# Altium footprint library con-omron.PCBLIB: 109 footprints (part 8 of 8)
Each footprint in its own frame and in the unit in brackets; x right, y up, seen from the top. Pads: shape width x height; smd on the part's side, far side on the other; paste and mask are expansions set on the pad; w line width, h text height; cw(c..) or ccw(c..) is an arc to the next point about the centre after c.
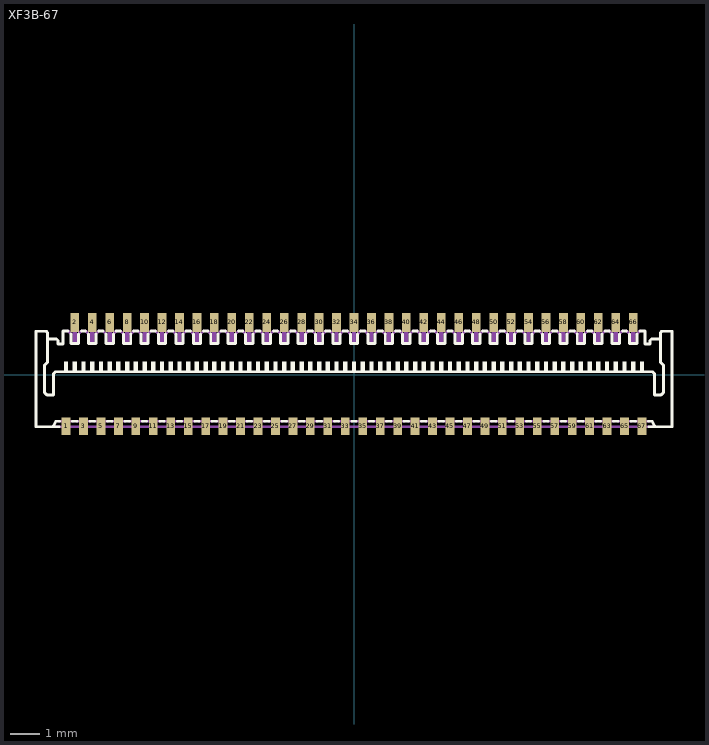
[diagram p7: the footprint, top view; thin cyan lines are the x and y axes]

## XF3B-67 [mm]
pads (67):
  rect 0.3x0.6 smd: 1(-9.9,-1.775) 3(-9.3,-1.775) 5(-8.7,-1.775) 7(-8.1,-1.775) 9(-7.5,-1.775) 11(-6.9,-1.775) 13(-6.3,-1.775) 15(-5.7,-1.775) 17(-5.1,-1.775) 19(-4.5,-1.775) 21(-3.9,-1.775) 23(-3.3,-1.775) 25(-2.7,-1.775) 27(-2.1,-1.775) 29(-1.5,-1.775) 31(-0.9,-1.775) 33(-0.3,-1.775) 35(0.3,-1.775) 37(0.9,-1.775) 39(1.5,-1.775) 41(2.1,-1.775) 43(2.7,-1.775) 45(3.3,-1.775) 47(3.9,-1.775) 49(4.5,-1.775) 51(5.1,-1.775) 53(5.7,-1.775) 55(6.3,-1.775) 57(6.9,-1.775) 59(7.5,-1.775) 61(8.1,-1.775) 63(8.7,-1.775) 65(9.3,-1.775) 67(9.9,-1.775)
  rect 0.3x0.65 smd: 2(-9.6,1.8) 4(-9,1.8) 6(-8.4,1.8) 8(-7.8,1.8) 10(-7.2,1.8) 12(-6.6,1.8) 14(-6,1.8) 16(-5.4,1.8) 18(-4.8,1.8) 20(-4.2,1.8) 22(-3.6,1.8) 24(-3,1.8) 26(-2.4,1.8) 28(-1.8,1.8) 30(-1.2,1.8) 32(-0.6,1.8) 34(0,1.8) 36(0.6,1.8) 38(1.2,1.8) 40(1.8,1.8) 42(2.4,1.8) 44(3,1.8) 46(3.6,1.8) 48(4.2,1.8) 50(4.8,1.8) 52(5.4,1.8) 54(6,1.8) 56(6.6,1.8) 58(7.2,1.8) 60(7.8,1.8) 62(8.4,1.8) 64(9,1.8) 66(9.6,1.8)
Top Overlay:
  drawing of 270 lines, arcs and shapes, not listed
Top Paste:
  rectangle: -9.725,1.5 -9.475,2.1
  rectangle: -10.025,-2.05 -9.775,-1.5
  rectangle: -9.425,-2.05 -9.175,-1.5
  rectangle: -8.825,-2.05 -8.575,-1.5
  rectangle: -8.225,-2.05 -7.975,-1.5
  rectangle: -7.625,-2.05 -7.375,-1.5
  rectangle: -7.025,-2.05 -6.775,-1.5
  rectangle: -6.425,-2.05 -6.175,-1.5
  rectangle: -5.825,-2.05 -5.575,-1.5
  rectangle: -5.225,-2.05 -4.975,-1.5
  rectangle: -4.625,-2.05 -4.375,-1.5
  rectangle: -4.025,-2.05 -3.775,-1.5
  rectangle: -3.425,-2.05 -3.175,-1.5
  rectangle: -2.825,-2.05 -2.575,-1.5
  rectangle: -2.225,-2.05 -1.975,-1.5
  rectangle: -1.625,-2.05 -1.375,-1.5
  rectangle: -1.025,-2.05 -0.775,-1.5
  rectangle: -0.425,-2.05 -0.175,-1.5
  rectangle: 0.175,-2.05 0.425,-1.5
  rectangle: 0.775,-2.05 1.025,-1.5
  rectangle: 1.375,-2.05 1.625,-1.5
  rectangle: 1.975,-2.05 2.225,-1.5
  rectangle: 2.575,-2.05 2.825,-1.5
  rectangle: 3.175,-2.05 3.425,-1.5
  rectangle: 3.775,-2.05 4.025,-1.5
  rectangle: 4.375,-2.05 4.625,-1.5
  rectangle: 4.975,-2.05 5.225,-1.5
  rectangle: 5.575,-2.05 5.825,-1.5
  rectangle: 6.175,-2.05 6.425,-1.5
  rectangle: 6.775,-2.05 7.025,-1.5
  rectangle: 7.375,-2.05 7.625,-1.5
  rectangle: 7.975,-2.05 8.225,-1.5
  rectangle: 8.575,-2.05 8.825,-1.5
  rectangle: 9.175,-2.05 9.425,-1.5
  rectangle: 9.775,-2.05 10.025,-1.5
  rectangle: -9.125,1.5 -8.875,2.1
  rectangle: -8.525,1.5 -8.275,2.1
  rectangle: -7.925,1.5 -7.675,2.1
  rectangle: -7.325,1.5 -7.075,2.1
  rectangle: -6.725,1.5 -6.475,2.1
  rectangle: -6.125,1.5 -5.875,2.1
  rectangle: -5.525,1.5 -5.275,2.1
  rectangle: -4.925,1.5 -4.675,2.1
  rectangle: -4.325,1.5 -4.075,2.1
  rectangle: -3.725,1.5 -3.475,2.1
  rectangle: -3.125,1.5 -2.875,2.1
  rectangle: -2.525,1.5 -2.275,2.1
  rectangle: -1.925,1.5 -1.675,2.1
  rectangle: -1.325,1.5 -1.075,2.1
  rectangle: -0.725,1.5 -0.475,2.1
  rectangle: -0.125,1.5 0.125,2.1
  rectangle: 0.475,1.5 0.725,2.1
  rectangle: 1.075,1.5 1.325,2.1
  rectangle: 1.675,1.5 1.925,2.1
  rectangle: 2.275,1.5 2.525,2.1
  rectangle: 2.875,1.5 3.125,2.1
  rectangle: 3.475,1.5 3.725,2.1
  rectangle: 4.075,1.5 4.325,2.1
  rectangle: 4.675,1.5 4.925,2.1
  rectangle: 5.275,1.5 5.525,2.1
  rectangle: 5.875,1.5 6.125,2.1
  rectangle: 6.475,1.5 6.725,2.1
  rectangle: 7.075,1.5 7.325,2.1
  rectangle: 7.675,1.5 7.925,2.1
  rectangle: 8.275,1.5 8.525,2.1
  rectangle: 8.875,1.5 9.125,2.1
  rectangle: 9.475,1.5 9.725,2.1
Top Solder:
  rectangle: -9.8,1.425 -9.4,2.175
  rectangle: -10.1,-2.125 -9.7,-1.425
  rectangle: -9.5,-2.125 -9.1,-1.425
  rectangle: -8.9,-2.125 -8.5,-1.425
  rectangle: -8.3,-2.125 -7.9,-1.425
  rectangle: -7.7,-2.125 -7.3,-1.425
  rectangle: -7.1,-2.125 -6.7,-1.425
  rectangle: -6.5,-2.125 -6.1,-1.425
  rectangle: -5.9,-2.125 -5.5,-1.425
  rectangle: -5.3,-2.125 -4.9,-1.425
  rectangle: -4.7,-2.125 -4.3,-1.425
  rectangle: -4.1,-2.125 -3.7,-1.425
  rectangle: -3.5,-2.125 -3.1,-1.425
  rectangle: -2.9,-2.125 -2.5,-1.425
  rectangle: -2.3,-2.125 -1.9,-1.425
  rectangle: -1.7,-2.125 -1.3,-1.425
  rectangle: -1.1,-2.125 -0.7,-1.425
  rectangle: -0.5,-2.125 -0.1,-1.425
  rectangle: 0.1,-2.125 0.5,-1.425
  rectangle: 0.7,-2.125 1.1,-1.425
  rectangle: 1.3,-2.125 1.7,-1.425
  rectangle: 1.9,-2.125 2.3,-1.425
  rectangle: 2.5,-2.125 2.9,-1.425
  rectangle: 3.1,-2.125 3.5,-1.425
  rectangle: 3.7,-2.125 4.1,-1.425
  rectangle: 4.3,-2.125 4.7,-1.425
  rectangle: 4.9,-2.125 5.3,-1.425
  rectangle: 5.5,-2.125 5.9,-1.425
  rectangle: 6.1,-2.125 6.5,-1.425
  rectangle: 6.7,-2.125 7.1,-1.425
  rectangle: 7.3,-2.125 7.7,-1.425
  rectangle: 7.9,-2.125 8.3,-1.425
  rectangle: 8.5,-2.125 8.9,-1.425
  rectangle: 9.1,-2.125 9.5,-1.425
  rectangle: 9.7,-2.125 10.1,-1.425
  rectangle: -9.2,1.425 -8.8,2.175
  rectangle: -8.6,1.425 -8.2,2.175
  rectangle: -8,1.425 -7.6,2.175
  rectangle: -7.4,1.425 -7,2.175
  rectangle: -6.8,1.425 -6.4,2.175
  rectangle: -6.2,1.425 -5.8,2.175
  rectangle: -5.6,1.425 -5.2,2.175
  rectangle: -5,1.425 -4.6,2.175
  rectangle: -4.4,1.425 -4,2.175
  rectangle: -3.8,1.425 -3.4,2.175
  rectangle: -3.2,1.425 -2.8,2.175
  rectangle: -2.6,1.425 -2.2,2.175
  rectangle: -2,1.425 -1.6,2.175
  rectangle: -1.4,1.425 -1,2.175
  rectangle: -0.8,1.425 -0.4,2.175
  rectangle: -0.2,1.425 0.2,2.175
  rectangle: 0.4,1.425 0.8,2.175
  rectangle: 1,1.425 1.4,2.175
  rectangle: 1.6,1.425 2,2.175
  rectangle: 2.2,1.425 2.6,2.175
  rectangle: 2.8,1.425 3.2,2.175
  rectangle: 3.4,1.425 3.8,2.175
  rectangle: 4,1.425 4.4,2.175
  rectangle: 4.6,1.425 5,2.175
  rectangle: 5.2,1.425 5.6,2.175
  rectangle: 5.8,1.425 6.2,2.175
  rectangle: 6.4,1.425 6.8,2.175
  rectangle: 7,1.425 7.4,2.175
  rectangle: 7.6,1.425 8,2.175
  rectangle: 8.2,1.425 8.6,2.175
  rectangle: 8.8,1.425 9.2,2.175
  rectangle: 9.4,1.425 9.8,2.175
Mechanical 16:
  rectangle: -9.975,-1.85 -9.825,-1.648
  rectangle: -9.354,-1.84 -9.239,-1.648
  rectangle: -9.675,1.125 -9.525,1.95
  rectangle: -9.075,1.125 -8.925,1.95
  rectangle: -8.475,1.125 -8.325,1.95
  rectangle: -7.875,1.125 -7.725,1.95
  rectangle: -7.275,1.125 -7.125,1.95
  rectangle: -6.675,1.125 -6.525,1.95
  rectangle: -6.075,1.125 -5.925,1.95
  rectangle: -5.475,1.125 -5.325,1.95
  rectangle: -4.875,1.125 -4.725,1.95
  rectangle: -4.275,1.125 -4.125,1.95
  rectangle: -3.675,1.125 -3.525,1.95
  rectangle: -3.075,1.125 -2.925,1.95
  rectangle: -2.475,1.125 -2.325,1.95
  rectangle: -1.875,1.125 -1.725,1.95
  rectangle: -1.275,1.125 -1.125,1.95
  rectangle: -0.675,1.125 -0.525,1.95
  rectangle: -0.075,1.125 0.075,1.95
  rectangle: 0.525,1.125 0.675,1.95
  rectangle: 1.125,1.125 1.275,1.95
  rectangle: 1.725,1.125 1.875,1.95
  rectangle: 2.325,1.125 2.475,1.95
  rectangle: 2.925,1.125 3.075,1.95
  rectangle: 3.525,1.125 3.675,1.95
  rectangle: 4.125,1.125 4.275,1.95
  rectangle: 4.725,1.125 4.875,1.95
  rectangle: 5.325,1.125 5.475,1.95
  rectangle: 5.925,1.125 6.075,1.95
  rectangle: 6.525,1.125 6.675,1.95
  rectangle: 7.125,1.125 7.275,1.95
  rectangle: 7.725,1.125 7.875,1.95
  rectangle: 8.325,1.125 8.475,1.95
  rectangle: 8.925,1.125 9.075,1.95
  rectangle: 9.525,1.125 9.675,1.95
  lines w0.102: -10.339,-1.789 10.253,-1.789 ; -10.125,-1.6 -9.675,-1.6 ; -9.825,1.5 -9.725,1.4 ; -9.525,-1.6 -9.075,-1.6 ; -9.475,1.4 -9.375,1.5 ; -9.225,1.5 -9.125,1.4 ; -8.925,-1.6 -8.475,-1.6 ; -8.875,1.4 -8.775,1.5 ; -8.625,1.5 -8.525,1.4 ; -8.325,-1.6 -7.875,-1.6 ; -8.275,1.4 -8.175,1.5 ; -8.025,1.5 -7.925,1.4 ; -7.725,-1.6 -7.275,-1.6 ; -7.675,1.4 -7.575,1.5 ; -7.425,1.5 -7.325,1.4 ; -7.125,-1.6 -6.675,-1.6 ; -7.075,1.4 -6.975,1.5 ; -6.825,1.5 -6.725,1.4 ; -6.525,-1.6 -6.075,-1.6 ; -6.475,1.4 -6.375,1.5 ; -6.225,1.5 -6.125,1.4 ; -5.925,-1.6 -5.475,-1.6 ; -5.875,1.4 -5.775,1.5 ; -5.625,1.5 -5.525,1.4 ; -5.325,-1.6 -4.875,-1.6 ; -5.275,1.4 -5.175,1.5 ; -5.025,1.5 -4.925,1.4 ; -4.725,-1.6 -4.275,-1.6 ; -4.675,1.4 -4.575,1.5 ; -4.425,1.5 -4.325,1.4 ; -4.125,-1.6 -3.675,-1.6 ; -4.075,1.4 -3.975,1.5 ; -3.825,1.5 -3.725,1.4 ; -3.525,-1.6 -3.075,-1.6 ; -3.475,1.4 -3.375,1.5 ; -3.225,1.5 -3.125,1.4 ; -2.925,-1.6 -2.475,-1.6 ; -2.875,1.4 -2.775,1.5 ; -2.625,1.5 -2.525,1.4 ; -2.325,-1.6 -1.875,-1.6 ; -2.275,1.4 -2.175,1.5 ; -2.025,1.5 -1.925,1.4 ; -1.725,-1.6 -1.275,-1.6 ; -1.675,1.4 -1.575,1.5 ; -1.425,1.5 -1.325,1.4 ; -1.125,-1.6 -0.675,-1.6 ; -1.075,1.4 -0.975,1.5 ; -0.825,1.5 -0.725,1.4 ; -0.525,-1.6 -0.075,-1.6 ; -0.475,1.4 -0.375,1.5 ; -0.225,1.5 -0.125,1.4 ; 0.075,-1.6 0.525,-1.6 ; 0.125,1.4 0.225,1.5 ; 0.375,1.5 0.475,1.4 ; 0.675,-1.6 1.125,-1.6 ; 0.725,1.4 0.825,1.5 ; 0.975,1.5 1.075,1.4 ; 1.275,-1.6 1.725,-1.6 ; 1.325,1.4 1.425,1.5 ; 1.575,1.5 1.675,1.4 ; 1.875,-1.6 2.325,-1.6 ; 1.925,1.4 2.025,1.5 ; 2.175,1.5 2.275,1.4 ; 2.475,-1.6 2.925,-1.6 ; 2.525,1.4 2.625,1.5 ; 2.775,1.5 2.875,1.4 ; 3.075,-1.6 3.525,-1.6 ; 3.125,1.4 3.225,1.5 ; 3.375,1.5 3.475,1.4 ; 3.675,-1.6 4.125,-1.6 ; 3.725,1.4 3.825,1.5 ; 3.975,1.5 4.075,1.4 ; 4.275,-1.6 4.725,-1.6 ; 4.325,1.4 4.425,1.5 ; 4.575,1.5 4.675,1.4 ; 4.875,-1.6 5.325,-1.6 ; 4.925,1.4 5.025,1.5 ; 5.175,1.5 5.275,1.4 ; 5.475,-1.6 5.925,-1.6 ; 5.525,1.4 5.625,1.5 ; 5.775,1.5 5.875,1.4 ; 6.075,-1.6 6.525,-1.6 ; 6.125,1.4 6.225,1.5 ; 6.375,1.5 6.475,1.4 ; 6.675,-1.6 7.125,-1.6 ; 6.725,1.4 6.825,1.5 ; 6.975,1.5 7.075,1.4 ; 7.275,-1.6 7.725,-1.6 ; 7.325,1.4 7.425,1.5 ; 7.575,1.5 7.675,1.4 ; 7.875,-1.6 8.325,-1.6 ; 7.925,1.4 8.025,1.5 ; 8.175,1.5 8.275,1.4 ; 8.475,-1.6 8.925,-1.6 ; 8.525,1.4 8.625,1.5 ; 8.775,1.5 8.875,1.4 ; 9.075,-1.6 9.525,-1.6 ; 9.125,1.4 9.225,1.5 ; 9.375,1.5 9.475,1.4 ; 9.675,-1.6 10.125,-1.6 ; 9.725,1.4 9.825,1.5